# EAGLE library part LTC3891 (library kitt.ic)
Step-Down Controller
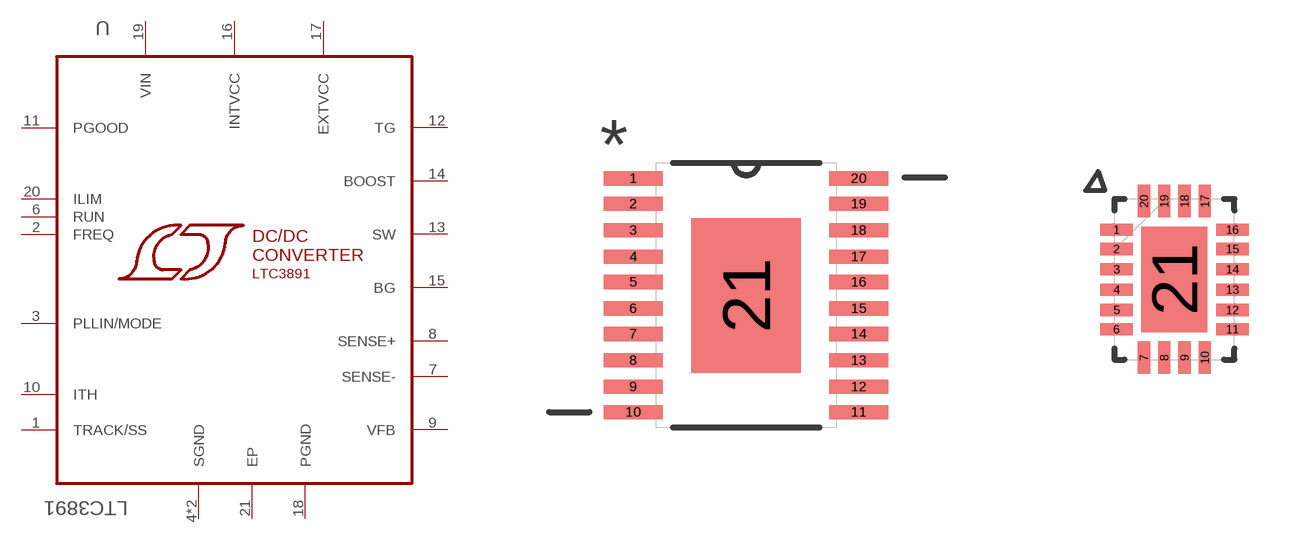
[diagram p8: symbol with the pads of SOP65P640X120-20N; footprints SOP65P640X120-20N, QFN50P]

Designator prefix U

## LTC3891SSOP (AVAILABILITY: Good; DESCRIPTION: DC DC Cntrlr Single-OUT Sync Step Down 4V to 60V Input Automotive 20-Pin TSSOP EP; MF: Linear Technology; MP: LTC3891EFE#PBF; PACKAGE: TSSOP-20 Linear Technology; PRICE: 5.58 USD)  [SOP65P640X120-20N]
1  TRACK/SS  pas
2  FREQ  out
3  PLLIN/MODE  in
4  SGND  pas
5  SGND  pas
6  RUN  in
7  SENSE-  in
8  SENSE+  in
9  VFB  in
10  ITH  out
11  PGOOD  out
12  TG  in
13  SW  in
14  BOOST  in
15  BG  in
16  INTVCC  out
17  EXTVCC  in
18  PGND  pas
19  VIN  pwr
20  ILIM  in
21  EP  pas

## LTC3891QFN50P  [QFN50P]
1  PLLIN/MODE  in
2  SGND  pas
3  SGND  pas
4  RUN  in
5  SENSE-  in
6  SENSE+  in
7  VFB  in
8  ITH  out
9  PGOOD  out
10  TG  in
11  SW  in
12  BOOST  in
13  BG  in
14  INTVCC  out
15  EXTVCC  in
16  PGND  pas
17  VIN  pwr
18  ILIM  in
19  TRACK/SS  pas
20  FREQ  out
21  EP  pas

## Footprint SOP65P640X120-20N (pad centres in mm)
smd 1.473 x 0.356: 1 -2.819,2.921; 2 -2.819,2.286; 3 -2.819,1.626; 4 -2.819,0.965; 5 -2.819,0.33; 6 -2.819,-0.33; 7 -2.819,-0.965; 8 -2.819,-1.626; 9 -2.819,-2.286; 10 -2.819,-2.921; 11 2.819,-2.921; 12 2.819,-2.286; 13 2.819,-1.626; 14 2.819,-0.965; 15 2.819,-0.33; 16 2.819,0.33; 17 2.819,0.965; 18 2.819,1.626; 19 2.819,2.286; 20 2.819,2.921
smd 2.743 x 3.861: 21 0,0

## Footprint QFN50P (pad centres in mm)
smd 0.813 x 0.305: 1 -1.448,1.245; 2 -1.448,0.762; 3 -1.448,0.254; 4 -1.448,-0.254; 5 -1.448,-0.762; 6 -1.448,-1.245; 11 1.448,-1.245; 12 1.448,-0.762; 13 1.448,-0.254; 14 1.448,0.254; 15 1.448,0.762; 16 1.448,1.245
smd 0.305 x 0.813: 7 -0.762,-1.956; 8 -0.254,-1.956; 9 0.254,-1.956; 10 0.762,-1.956; 17 0.762,1.956; 18 0.254,1.956; 19 -0.254,1.956; 20 -0.762,1.956
smd 1.651 x 2.642: 21 0,0